# Altium footprint library Passive.PcbLib: 235 footprints (part 6 of 15)
Each footprint in its own frame and in the unit in brackets; x right, y up, seen from the top. Pads: shape width x height; smd on the part's side, far side on the other; paste and mask are expansions set on the pad; w line width, h text height; cw(c..) or ccw(c..) is an arc to the next point about the centre after c.
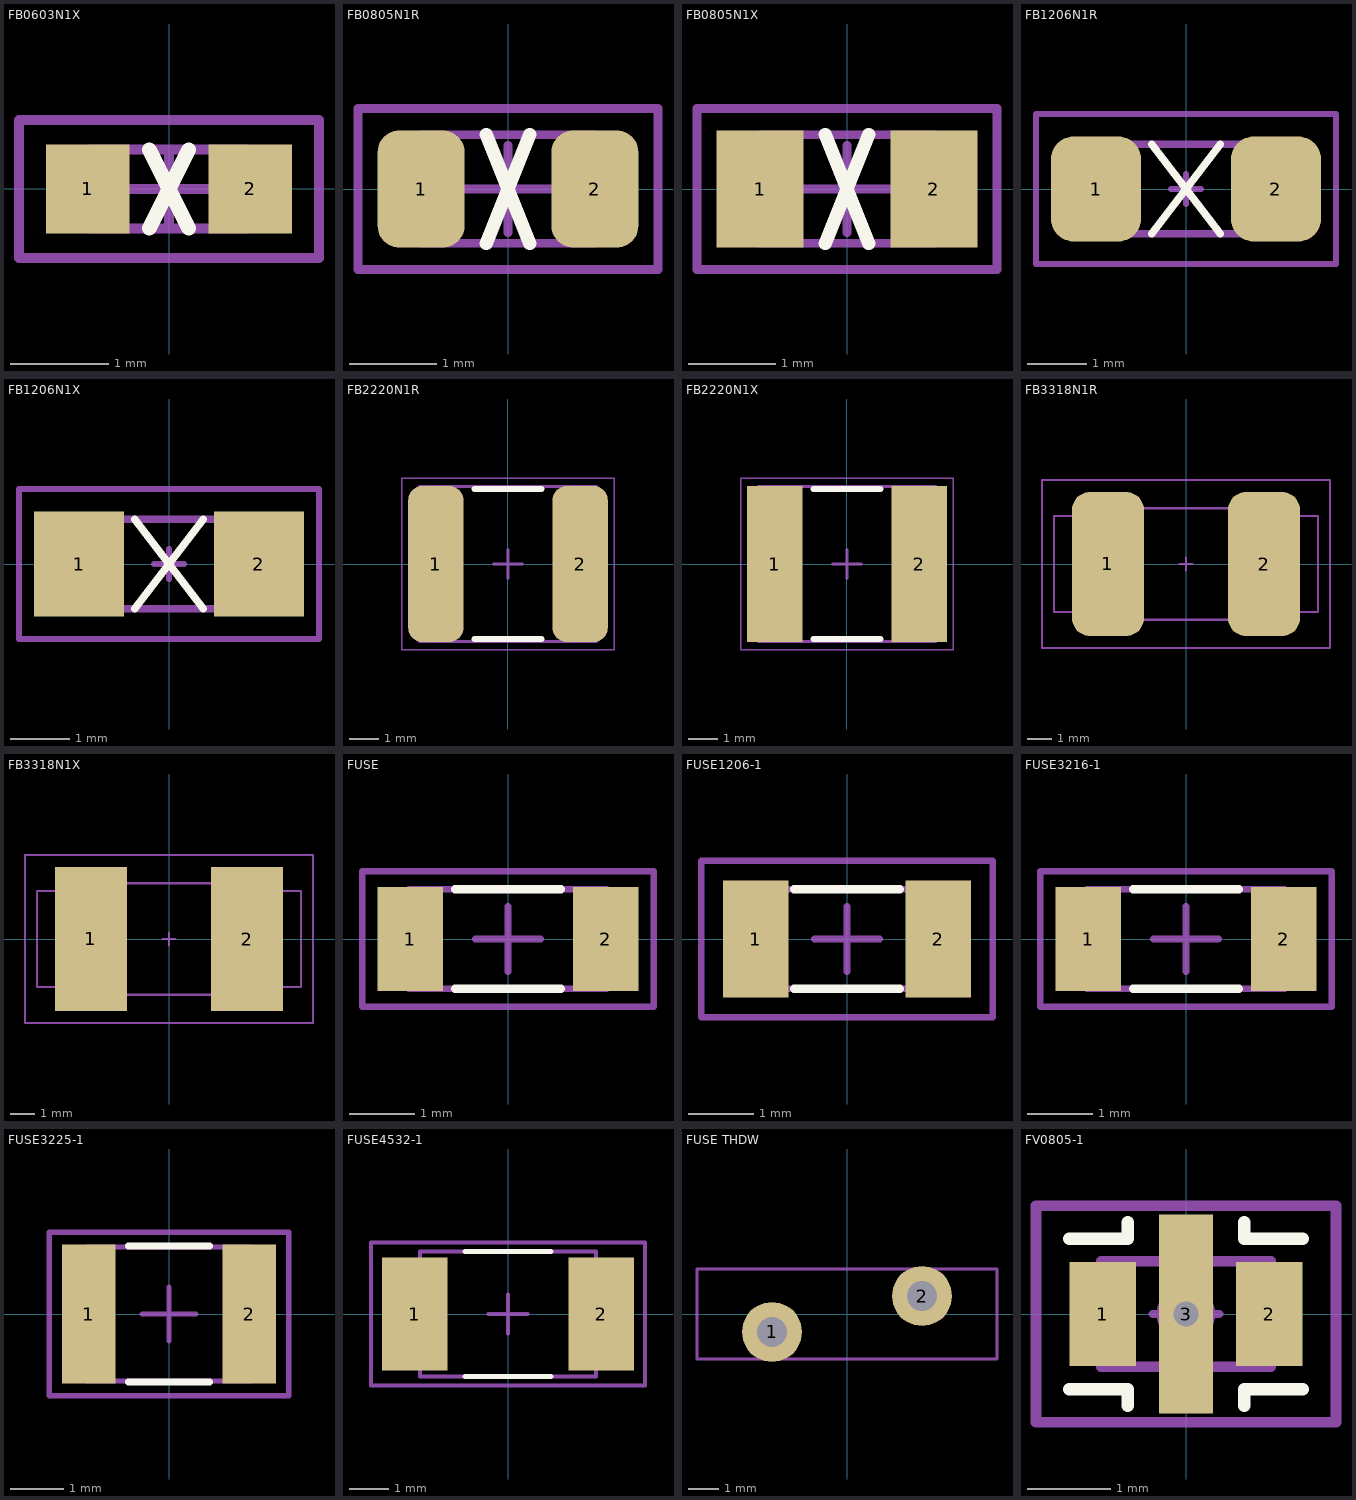
[diagram p5: the footprints below, top view; thin cyan lines are the x and y axes]

## FB0603N1X [mm] "Chip Ferrite Bead, 2-Leads, Body 1,6x0,8mm, IPC Medium Density"
height 0.8
pads (2):
  rect 0.85x0.9 smd: 1(-0.825,0) 2(0.825,0)
Top Overlay:
  lines w0.15: -0.2,-0.4 0.2,0.4 ; -0.2,0.4 0.2,-0.4
Mechanical 13:
  lines w0.1: -0.8,-0.4 0.8,-0.4 0.8,0.4 -0.8,0.4 -0.8,-0.4
Mechanical 15:
  lines w0.1: -0.4,0 0.4,0 ; 0,-0.4 0,0.4 ; -1.525,-0.7 1.525,-0.7 1.525,0.7 -1.525,0.7 -1.525,-0.7
3D body: height 0.8, standoff 0, extent -0.4,-0.4 0.4,0.4
3D body: height 0.8, standoff 0, extent -0.8,-0.4 -0.4,0.4
3D body: height 0.8, standoff 0, extent 0.4,-0.4 0.8,0.4

## FB0805N1R [mm] "Chip Ferrite Bead, 2-Leads, Body 2,0x1,3mm, IPC Medium Density"
height 0.85
pads (2):
  rrect50% 1x1.35 smd: 1(-1,0) 2(1,0)
Top Overlay:
  lines w0.15: -0.25,-0.625 0.25,0.625 ; -0.25,0.625 0.25,-0.625
Mechanical 13:
  lines w0.1: -1,-0.625 -1,0.625 1,0.625 1,-0.625 -1,-0.625
Mechanical 15:
  lines w0.1: -0.5,0 0.5,0 ; 0,-0.5 0,0.5 ; -1.725,-0.925 -1.725,0.925 1.725,0.925 1.725,-0.925 -1.725,-0.925
3D body: height 0.85, standoff 0, extent 0.5,-0.625 1,0.625
3D body: height 0.85, standoff 0, extent -1,-0.625 -0.5,0.625
3D body: height 0.85, standoff 0, extent -0.5,-0.625 0.5,0.625

## FB0805N1X [mm] "Chip Ferrite Bead, 2-Leads, Body 2,0x1,3mm, IPC Medium Density"
height 0.85
pads (2):
  rect 1x1.35 smd: 1(-1,0) 2(1,0)
Top Overlay:
  lines w0.15: -0.25,-0.625 0.25,0.625 ; -0.25,0.625 0.25,-0.625
Mechanical 13:
  lines w0.1: -1,-0.625 1,-0.625 1,0.625 -1,0.625 -1,-0.625
Mechanical 15:
  lines w0.1: -0.5,0 0.5,0 ; 0,-0.5 0,0.5 ; -1.725,-0.925 1.725,-0.925 1.725,0.925 -1.725,0.925 -1.725,-0.925
3D body: height 0.85, standoff 0, extent -0.5,-0.625 0.5,0.625
3D body: height 0.85, standoff 0, extent -1,-0.625 -0.5,0.625
3D body: height 0.85, standoff 0, extent 0.5,-0.625 1,0.625

## FB1206N1R [mil] "Feritni filter smd 1206"
height 47.24
pads (2):
  rrect50% 60x70 smd: 1(-60,0) 2(60,0)
Top Overlay:
  lines w5: -23,-30 23,30 ; -23,30 23,-30
Mechanical 13:
  lines w5: -60,-30 -60,30 60,30 60,-30 -60,-30
Mechanical 15:
  lines w3.94: -10,0 10,0 ; 0,-10 0,10
  lines w4: -100,-50 -100,50 100,50 100,-50 -100,-50
3D body: height 43.31, standoff 0, extent -32,-30 32,30
3D body: height 43.31, standoff 0, extent -60,-30 -32,30
3D body: height 43.31, standoff 0, extent 32,-30 60,30

## FB1206N1X [mil] "Feritni filter smd 1206"
height 47.24
pads (2):
  rect 60x70 smd: 1(-60,0) 2(60,0)
Top Overlay:
  lines w5: -23,-30 23,30 ; -23,30 23,-30
Mechanical 13:
  lines w5: -60,-30 -60,30 60,30 60,-30 -60,-30
Mechanical 15:
  lines w3.94: -10,0 10,0 ; 0,-10 0,10
  lines w4: -100,-50 -100,50 100,50 100,-50 -100,-50
3D body: height 43.31, standoff 0, extent -32,-30 32,30
3D body: height 43.31, standoff 0, extent -60,-30 -32,30
3D body: height 43.31, standoff 0, extent 32,-30 60,30

## FB2220N1R [mm] "Chip Ferrite, 2-Leads, Body 5,59x5,08mm, IPC Medium Density"
height 2.05
pads (2):
  rrect50% 1.9x5.35 smd: 1(-2.475,0) 2(2.475,0)
Top Overlay:
  lines w0.2: -1.15,-2.575 1.15,-2.575 ; -1.15,2.575 1.15,2.575
Mechanical 13:
  lines w0.1: -3.05,-2.665 3.05,-2.665 3.05,2.665 -3.05,2.665 -3.05,-2.665
Mechanical 15:
  lines w0.05: -3.65,-2.95 3.65,-2.95 3.65,2.95 -3.65,2.95 -3.65,-2.95
  lines w0.1: -0.5,0 0.5,0 ; 0,-0.5 0,0.5
3D body: height 2.05, standoff 0, extent 2.29,-2.665 3.05,2.665
3D body: height 2.05, standoff 0, extent -3.05,-2.665 -2.29,2.665
3D body: height 2.05, standoff 0, extent -2.29,-2.665 2.29,2.665

## FB2220N1X [mm] "Chip Ferrite, 2-Leads, Body 5,59x5,08mm, IPC Medium Density"
height 2.05
pads (2):
  rect 1.9x5.35 smd: 1(-2.475,0) 2(2.475,0)
Top Overlay:
  lines w0.2: -1.15,-2.575 1.15,-2.575 ; -1.15,2.575 1.15,2.575
Mechanical 13:
  lines w0.1: -3.05,-2.665 3.05,-2.665 3.05,2.665 -3.05,2.665 -3.05,-2.665
Mechanical 15:
  lines w0.05: -3.65,-2.95 3.65,-2.95 3.65,2.95 -3.65,2.95 -3.65,-2.95
  lines w0.1: -0.5,0 0.5,0 ; 0,-0.5 0,0.5
3D body: height 2.05, standoff 0, extent 2.29,-2.665 3.05,2.665
3D body: height 2.05, standoff 0, extent -3.05,-2.665 -2.29,2.665
3D body: height 2.05, standoff 0, extent -2.29,-2.665 2.29,2.665

## FB3318N1R [mm] "Feritni filter smd 3318"
height 5.5
pads (2):
  rrect50% 3x6 smd: 1(-3.25,0) 2(3.25,0)
Mechanical 13:
  lines w0.1: -4.25,-2 -5.5,-2 -5.5,2 -4.25,2 ; 4.25,-2 5.5,-2 5.5,2 4.25,2 ; -4.25,-2.325 -4.25,2.325 4.25,2.325 4.25,-2.325 -4.25,-2.325
Mechanical 15:
  lines w0.1: -0.254,0 0.254,0 ; 0,-0.254 0,0.254
  lines w0.102: -6,-3.5 -6,3.5 6,3.5 6,-3.5 -6,-3.5
3D body: height 5.5, standoff 0, extent -4.25,-2.325 4.25,2.325
3D body: height 4, standoff 1, extent -5.5,-2 -4.25,2
3D body: height 4, standoff 1, extent 4.25,-2 5.5,2

## FB3318N1X [mm] "Feritni filter smd 3318"
height 5.5
pads (2):
  rect 3x6 smd: 1(-3.25,0) 2(3.25,0)
Mechanical 13:
  lines w0.1: -4.25,-2 -5.5,-2 -5.5,2 -4.25,2 ; 4.25,-2 5.5,-2 5.5,2 4.25,2 ; -4.25,-2.325 4.25,-2.325 4.25,2.325 -4.25,2.325 -4.25,-2.325
Mechanical 15:
  lines w0.1: -0.254,0 0.254,0 ; 0,-0.254 0,0.254
  lines w0.102: -6,-3.5 6,-3.5 6,3.5 -6,3.5 -6,-3.5
3D body: height 4, standoff 1, extent 4.25,-2 5.5,2
3D body: height 4, standoff 1, extent -5.5,-2 -4.25,2
3D body: height 5.5, standoff 0, extent -4.25,-2.325 4.25,2.325

## FUSE [mm] "Chip Fuse, Body 3.2x1.6mm"
height 15
pads (2):
  rect 1x1.6 smd: 1(-1.5,0) 2(1.5,0)
Top Overlay:
  lines w0.127: -0.813,-0.762 0.813,-0.762 ; -0.813,0.762 0.813,0.762
Mechanical 13:
  lines w0.1: -1.524,-0.762 -1.524,-0.254 -1.346,-0.076 -1.346,0.076 -1.524,0.254 -1.524,0.762 1.513,0.762 1.513,0.269 1.346,0.102 1.346,-0.102 1.513,-0.269 1.513,-0.762 -1.524,-0.762
Mechanical 15:
  lines w0.1: -0.5,0 0.5,0 ; 0,-0.5 0,0.5 ; -2.235,-1.041 -2.235,1.041 2.235,1.041 2.235,-1.041 -2.235,-1.041
3D body: height 0.41, standoff 0.4, extent -1.372,-0.762 -0.965,0.762
3D body: height 0.4, standoff 0, extent -1.524,-0.762 1.513,0.762

## FUSE1206-1 [mm] "Chip Fuse, Body 3.2x1.6mm"
height 0.7
pads (2):
  rect 1x1.8 smd: 1(-1.4,0) 2(1.4,0)
Top Overlay:
  lines w0.127: -0.813,-0.762 0.813,-0.762 ; -0.813,0.762 0.813,0.762
Mechanical 13:
  lines w0.1: -1.524,-0.762 1.513,-0.762 1.513,-0.269 1.346,-0.102 1.346,0.102 1.513,0.269 1.513,0.762 -1.524,0.762 -1.524,0.254 -1.346,0.076 -1.346,-0.076 -1.524,-0.254 -1.524,-0.762
Mechanical 15:
  lines w0.1: -0.5,0 0.5,0 ; 0,-0.5 0,0.5 ; -2.235,-1.2 2.235,-1.2 2.235,1.2 -2.235,1.2 -2.235,-1.2
3D body: height 0.4, standoff 0, extent -1.524,-0.762 1.513,0.762
3D body: height 0.41, standoff 0.4, extent -1.372,-0.762 -0.965,0.762

## FUSE3216-1 [mm] "Chip Fuse, Body 3.2x1.6mm"
height 0.4
pads (2):
  rect 1x1.6 smd: 1(-1.5,0) 2(1.5,0)
Top Overlay:
  lines w0.127: -0.813,-0.762 0.813,-0.762 ; -0.813,0.762 0.813,0.762
Mechanical 13:
  lines w0.1: -1.524,-0.762 -1.524,-0.254 -1.346,-0.076 -1.346,0.076 -1.524,0.254 -1.524,0.762 1.513,0.762 1.513,0.269 1.346,0.102 1.346,-0.102 1.513,-0.269 1.513,-0.762 -1.524,-0.762
Mechanical 15:
  lines w0.1: -0.5,0 0.5,0 ; 0,-0.5 0,0.5 ; -2.235,-1.041 -2.235,1.041 2.235,1.041 2.235,-1.041 -2.235,-1.041
3D body: height 0.41, standoff 0.4, extent -1.372,-0.762 -0.965,0.762
3D body: height 0.4, standoff 0, extent -1.524,-0.762 1.513,0.762

## FUSE3225-1 [mm] "Chip Fuse, Body 3.2x2.5mm"
height 0.7
pads (2):
  rect 1x2.6 smd: 1(-1.5,0) 2(1.5,0)
Top Overlay:
  lines w0.127: -0.762,-1.27 0.762,-1.27 ; -0.762,1.27 0.762,1.27
Mechanical 13:
  lines w0.1: -1.524,-1.25 1.513,-1.25 1.513,-0.269 1.346,-0.102 1.346,0.102 1.513,0.269 1.513,1.25 -1.524,1.25 -1.524,0.254 -1.346,0.076 -1.346,-0.076 -1.524,-0.254 -1.524,-1.25
Mechanical 15:
  lines w0.1: -0.5,0 0.5,0 ; 0,-0.5 0,0.5 ; -2.235,-1.524 2.235,-1.524 2.235,1.524 -2.235,1.524 -2.235,-1.524
3D body: height 0.4, standoff 0, extent -1.524,-1.25 1.513,1.25
3D body: height 0.41, standoff 0.4, extent -1.372,-1.25 -0.965,1.25

## FUSE4532-1 [mil] "Chip Fuse, Body 4.5x3.2mm"
height 29.53
pads (2):
  rect 66x114 smd: 1(-94,0) 2(94,0)
Top Overlay:
  lines w5: -43.31,-62.99 43.31,-62.99 ; -43.31,62.99 43.31,62.99
Mechanical 13:
  lines w3.94: -88.58,-62.99 88.58,-62.99 88.58,-17.72 78.74,-7.87 78.74,7.87 88.58,17.72 88.58,62.99 -88.58,62.99 -88.58,17.72 -78.74,7.87 -78.74,-7.87 -88.58,-17.72 -88.58,-62.99
Mechanical 15:
  lines w3.94: -19.68,0 19.69,0 ; 0,-19.68 0,19.69 ; -138,-72 138,-72 138,72 -138,72 -138,-72
3D body: height 33.46, standoff 0, extent -88.58,-62.99 88.58,62.99
3D body: height 33.86, standoff 33.46, extent -74.8,-62.99 -49.21,62.99

## FUSE THDW [mm] "Chip Fuse, Body 3.2x1.6mm"
height 15
pads (2):
  round 2 hole 1: 1(-2.5,-0.6) 2(2.5,0.6)
Mechanical 13:
  lines w0.1: -5,-1.5 -5,1.5 5,1.5 5,-1.5 -5,-1.5
3D body: height 0, standoff -5, extent -2.9,-0.8 -2.1,-0.4
3D body: height 0, standoff -5, extent 2.1,0.4 2.9,0.8
3D body: height 15, standoff 0, extent -5,-1.5 5,1.5

## FV0805-1 [mm] "Chip filter 0805"
height 0.9
pads (3):
  rect 0.8x1.25 smd mask+0.076: 1(-1,0) 2(1,0)
  rect 0.65x2.388 smd paste-1.27 mask-3: 3(0,0)
via 0,0 diameter 0.65 hole 0.3
Top Overlay:
  lines w0.15: -1.402,-0.9 -0.702,-0.9 -0.702,-1.1 ; -1.402,0.9 -0.702,0.9 -0.702,1.1 ; 0.702,-1.1 0.702,-0.9 1.402,-0.9 ; 0.702,1.1 0.702,0.9 1.402,0.9
Top Paste:
  rectangle: -0.325,0.406 0.325,1.194
  rectangle: -0.325,-1.194 0.325,-0.406
Top Solder:
  rectangle: -0.4,0.35 0.4,1.275
  region: 0.4,-0.35 -0.4,-0.35 -0.4,-1.275 0.4,-1.275
Mechanical 12:
  circle w0.4: c0,0 r0.15
Mechanical 13:
  lines w0.127: -1.016,-0.635 1.016,-0.635 1.016,0.635 -1.016,0.635 -1.016,-0.635
Mechanical 15:
  lines w0.102: -0.4,0 0.4,0 ; 0,-0.4 0,0.4
  lines w0.127: -1.8,-1.3 -1.8,1.3 1.8,1.3 1.8,-1.3 -1.8,-1.3
3D body: height 0.9, standoff 0, extent -0.4,0.5 0.4,0.635
3D body: height 0.9, standoff 0, extent -0.4,-0.635 0.4,-0.5
3D body: height 0.9, standoff 0, extent 0.8,-0.635 1.016,0.635
3D body: height 0.9, standoff 0, extent -1.016,-0.635 -0.8,0.635
3D body: height 0.9, standoff 0, extent -0.8,-0.635 0.8,0.635